# Altium integrated library Switches.IntLib: 3 symbols
Pins are listed as number, name and electrical type; pins without a type are passive.

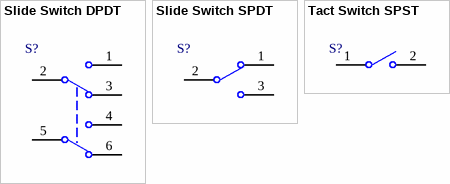
[diagram p0: symbols Slide Switch DPDT to Tact Switch SPST]

## Slide Switch DPDT
designator S?
Switch
footprint SS_DPDT_W8.5XD3.5
pins: 1, 2 COM, 3, 4, 5 COM, 6

## Slide Switch SPDT
designator S?
Switch
footprint SS_SPDT_W6.7XD2.7
pins: 1, 2 COM, 3

## Tact Switch SPST
designator S?
Switch
footprint TS_SPST_W4.2XD3.2
footprint TS_SPST_W4.5XD4.5
footprint TS_SPST_W6.0XD6.0
footprint TS_SPST_W6.0XD3.0
footprint TS_SPST_W6.2XD3.0
footprint TS_SPST_W3.5XD2.9
pins: 1, 2